# Altium footprint library V2.3SB.PcbLib: 50 footprints (part 1 of 4)
Each footprint in its own frame and in the unit in brackets; x right, y up, seen from the top. Pads: shape width x height; smd on the part's side, far side on the other; paste and mask are expansions set on the pad; w line width, h text height; cw(c..) or ccw(c..) is an arc to the next point about the centre after c.
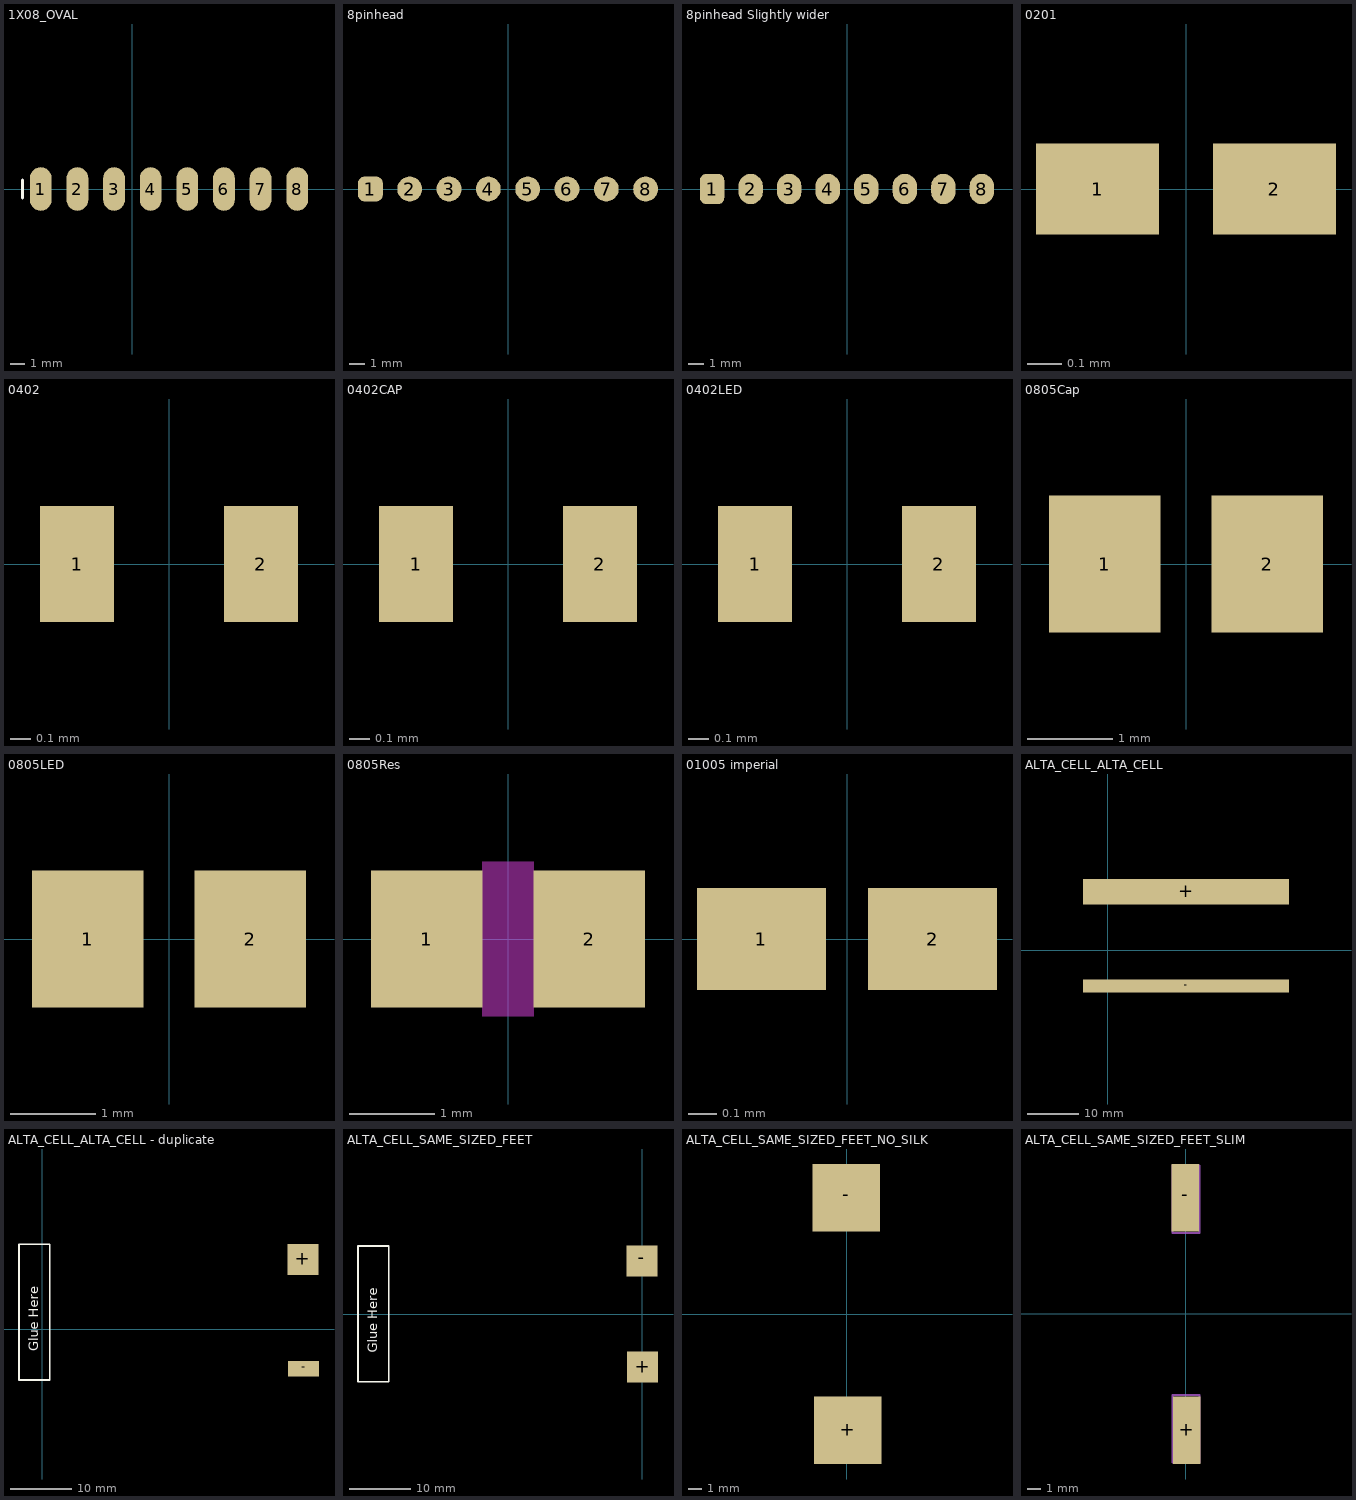
[diagram p0: the footprints below, top view; thin cyan lines are the x and y axes]

## 1X08_OVAL [mm]
height 1.25
pads (8):
  oval 1.508x3.016 smd: 1(-6.35,0) 2(-3.81,0) 3(-1.27,0) 4(1.27,0) 5(3.81,0) 6(6.35,0) 7(8.89,0) 8(11.43,0)
Top Overlay:
  lines w0.203: -7.62,-0.635 -7.62,0.635
Top Courtyard:
  region: -6.604,-0.254 -6.604,0.254 -6.096,0.254 -6.096,-0.254
  region: -4.064,-0.254 -4.064,0.254 -3.556,0.254 -3.556,-0.254
  region: -1.524,-0.254 -1.524,0.254 -1.016,0.254 -1.016,-0.254
  region: 1.016,-0.254 1.016,0.254 1.524,0.254 1.524,-0.254
  region: 6.096,-0.254 6.096,0.254 6.604,0.254 6.604,-0.254
  region: 3.556,-0.254 3.556,0.254 4.064,0.254 4.064,-0.254
  region: 11.176,-0.254 11.176,0.254 11.684,0.254 11.684,-0.254
  region: 8.636,-0.254 8.636,0.254 9.144,0.254 9.144,-0.254

## 8pinhead [mm] "Pin Header, pitch 2.54 mm, THT, Vertical, single row, 8p"
height 8.54
pads (8):
  rrect50% 1.6x1.6 smd: 1(-8.89,0)
  round 1.6 smd: 2(-6.35,0) 3(-3.81,0) 4(-1.27,0) 5(1.27,0) 6(3.81,0) 7(6.35,0) 8(8.89,0)

## 8pinhead Slightly wider [mm] "Pin Header, pitch 2.54 mm, THT, Vertical, single row, 8p"
height 8.54
pads (8):
  rrect50% 1.6x2 smd: 1(-8.89,0)
  oval 1.6x2 smd: 2(-6.35,0) 3(-3.81,0) 4(-1.27,0) 5(1.27,0) 6(3.81,0) 7(6.35,0) 8(8.89,0)

## 0201 [mm]
height 1.25
pads (2):
  rect 0.354x0.263 smd paste+0 mask+0: 1(-0.254,0) 2(0.254,0)

## 0402 [mm]
height 1.25
pads (2):
  rect 0.365x0.572 smd paste+0 mask+0: 1(-0.454,0) 2(0.454,0)
3D body "0402_Res.step": height 0.4, standoff 0, extent -0.5,-0.25 0.5,0.25

## 0402CAP [mm]
height 1.25
pads (2):
  rect 0.365x0.572 smd paste+0 mask+0: 1(-0.454,0) 2(0.454,0)
3D body "0402_Res.step": height 0.4, standoff 0, extent -0.5,-0.25 0.5,0.25

## 0402LED [mm]
height 1.25
pads (2):
  rect 0.365x0.572 smd paste+0 mask+0: 1(-0.454,0) 2(0.454,0)
3D body "0402_LED_Model2.stp": height 0.32, standoff -0.03, extent -0.5,-0.25 0.5,0.25

## 0805Cap [mm]
pads (2):
  rect 1.3x1.6 smd: 1(-0.95,0) 2(0.95,0)
3D body "0805_Cap.step": height 0.7, standoff 0, extent -1,-0.625 1,0.625

## 0805LED [mm]
pads (2):
  rect 1.3x1.6 smd: 1(-0.95,0) 2(0.95,0)
3D body "0805_LED.step": height 1.1, standoff 0, extent -1,-0.625 1,0.625

## 0805Res [mm]
pads (2):
  rect 1.3x1.6 smd: 1(-0.95,0) 2(0.95,0)
Keep-Out Layer:
  region: -0.3,0.9 -0.3,-0.9 0.3,-0.9 0.3,0.9
3D body "0805_Res.step": height 0.6, standoff 0, extent -1,-0.625 1,0.625

## 01005 imperial [mm]
height 1.25
pads (2):
  rect 0.456x0.361 smd paste+0 mask+0: 1(-0.303,0) 2(0.303,0)

## ALTA_CELL_ALTA_CELL [mm]
height 1.25
pads (2):
  rect 40x5 smd: +(15.24,11.364)
  rect 40x2.5 smd: -(15.24,-6.986)

## ALTA_CELL_ALTA_CELL - duplicate [mm]
pads (2):
  rect 5x5 smd: +(42.307,11.364)
  rect 5x2.5 smd: -(42.418,-6.35)
Top Overlay:
  lines w0.254: -3.76,-8.205 1.24,-8.205 1.24,13.795 -3.76,13.795 -3.76,-8.205
  text "Glue Here" at -0.623,-3.563 h1.52

## ALTA_CELL_SAME_SIZED_FEET [mm] "SAME SIZED FEET AND CORRECT POLARITY"
pads (2):
  rect 5x5 smd: +(0.056,-8.603) -(-0.055,8.603)
Top Overlay:
  lines w0.254: -46.122,-10.966 -46.122,11.034 -41.122,11.034 -41.122,-10.966 -46.122,-10.966
  text "Glue Here" at -42.986,-6.324 h1.52

## ALTA_CELL_SAME_SIZED_FEET_NO_SILK [mm] "SAME SIZED FEET AND CORRECT POLARITY AND SILK CUT"
pads (2):
  rect 5x5 smd: +(0.056,-8.603) -(-0.055,8.603)

## ALTA_CELL_SAME_SIZED_FEET_SLIM [mm] "SAME SIZED FEET AND CORRECT POLARITY AND SILK CUT"
pads (2):
  rect 2x5 smd: +(0.056,-8.603) -(-0.055,8.603)
Top Courtyard:
  lines w0.152: -1,-11 -1,-6 1,-6 1,-11 -1,-11 ; -1,6 -1,11 1,11 1,6 -1,6